# Altium footprint library SHDR12W99P254_2X6_2286X889X927P.PcbLib: 1 footprints
Each footprint in its own frame and in the unit in brackets; x right, y up, seen from the top. Pads: shape width x height; smd on the part's side, far side on the other; paste and mask are expansions set on the pad; w line width, h text height; cw(c..) or ccw(c..) is an arc to the next point about the centre after c.
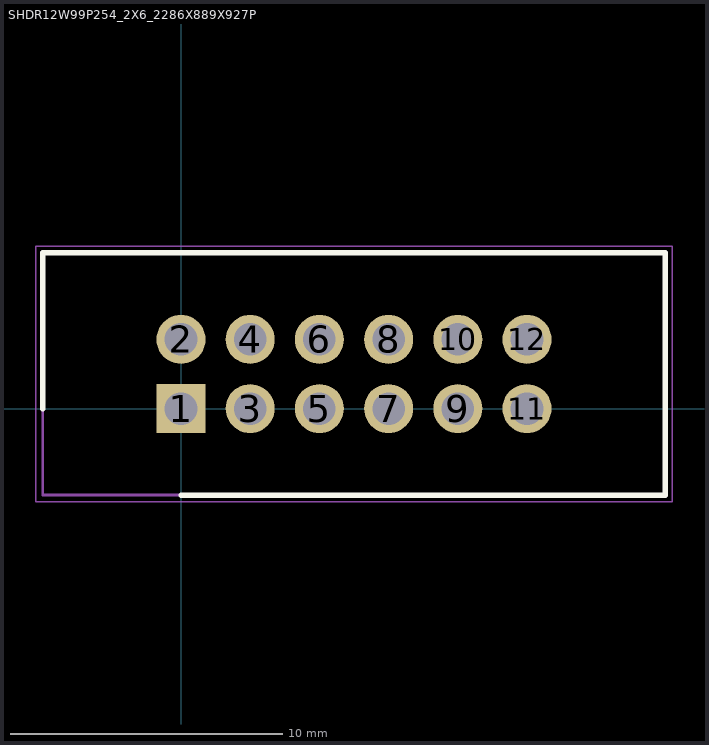
[diagram p0: the footprint, top view; thin cyan lines are the x and y axes]

## SHDR12W99P254_2X6_2286X889X927P [mm]
pads (12):
  rect 1.8x1.8 / inner round 1.8 / far side rect 1.8x1.8 hole 1.2: 1(0,0)
  round 1.8 hole 1.2: 2(0,2.54) 3(2.54,0) 4(2.54,2.54) 5(5.08,0) 6(5.08,2.54) 7(7.62,0) 8(7.62,2.54) 9(10.16,0) 10(10.16,2.54) 11(12.7,0) 12(12.7,2.54)
Top Overlay:
  lines w0.2: -5.08,0 -5.08,5.715 17.78,5.715 17.78,-3.175 0,-3.175
Mechanical 15:
  lines w0.1: -5.08,-3.175 17.78,-3.175 17.78,5.715 -5.08,5.715 -5.08,-3.175
Mechanical 20:
  lines w0.05: -5.33,-3.425 18.03,-3.425 18.03,5.965 -5.33,5.965 -5.33,-3.425
3D body "70246-1201.stp": height 9.28, standoff -3.42, extent -4.953,-2.921 17.907,5.969